# EAGLE library part КР1534ПП1 (library КР1534,К161,К120)
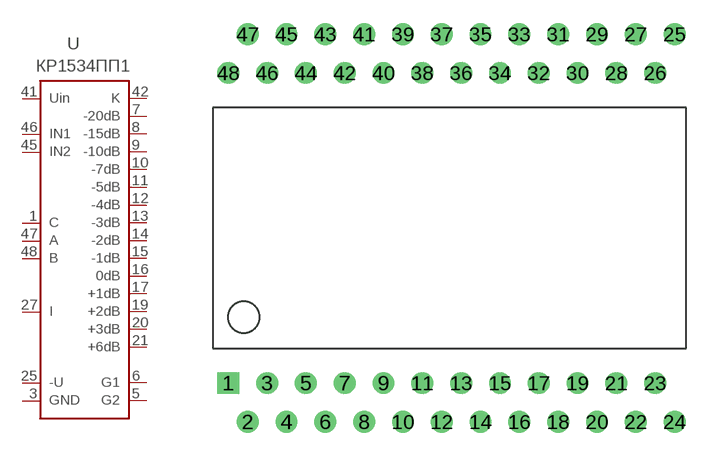
[diagram p0: symbol with the pads of 2205.48-3; footprint 2205.48-3]

Designator prefix -

## КР1534ПП1  [2205.48-3]
1  C  in
3  GND  pwr
5  G2  out
6  G1  out
7  -20DB  out
8  -15DB  out
9  -10DB  out
10  -7DB  out
11  -5DB  out
12  -4DB  out
13  -3DB  out
14  -2DB  out
15  -1DB  out
16  0DB  out
17  +1DB  out
19  +2DB  out
20  +3DB  out
21  +6DB  out
25  -VCC  pwr
27  I  in
41  41  in
42  K  out
45  IN2  in
46  IN1  in
47  A  in
48  B  in

## Footprint 2205.48-3 (pad centres in mm)
drill 0.9 square: 1 -14.25,-10
drill 0.9: 2 -13,-12.5; 3 -11.75,-10; 4 -10.5,-12.5; 5 -9.25,-10; 6 -8,-12.5; 7 -6.75,-10; 8 -5.5,-12.5; 9 -4.25,-10; 10 -3,-12.5; 11 -1.75,-10; 12 -0.5,-12.5; 13 0.75,-10; 14 2,-12.5; 15 3.25,-10; 16 4.5,-12.5; 17 5.75,-10; 18 7,-12.5; 19 8.25,-10; 20 9.5,-12.5; 21 10.75,-10; 22 12,-12.5; 23 13.25,-10; 24 14.5,-12.5; 25 14.5,12.5; 26 13.25,10; 27 12,12.5; 28 10.75,10; 29 9.5,12.5; 30 8.25,10; 31 7,12.5; 32 5.75,10; 33 4.5,12.5; 34 3.25,10; 35 2,12.5; 36 0.75,10; 37 -0.5,12.5; 38 -1.75,10; 39 -3,12.5; 40 -4.25,10; 41 -5.5,12.5; 42 -6.75,10; 43 -8,12.5; 44 -9.25,10; 45 -10.5,12.5; 46 -11.75,10; 47 -13,12.5; 48 -14.25,10